# EAGLE library part A000005 (library A000005)
MICRO, ARDUINO NANO 3.0, MINI-B USB, ATmega328, 0.1"DIP, ICSP HDR
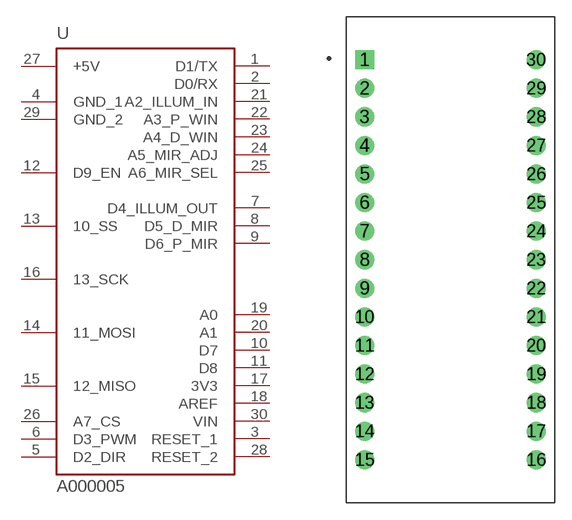
[diagram p0: symbol with the pads of ARDUINO_A000005; footprint ARDUINO_A000005]

Designator prefix U

## A000005 (AVAILABILITY: Unavailable; DESCRIPTION: MICRO, ARDUINO NANO 3.0, MINI-B USB, ATmega328, 0.1DIP, ICSP HDR; MF: Arduino; MP: A000005; PACKAGE: None; PRICE: None)  [ARDUINO_A000005]
1  D1/TX  out
2  D0/RX  in
3  RESET_1  pas
4  GND_1  pwr
5  D2_DIR  out
6  D3_PWM  out
7  D4_ILLUM_OUT  out
8  D5_D_MIR  out
9  D6_P_MIR  out
10  D7  out
11  D8  pas
12  D9_EN  out
13  10_SS  out
14  11_MOSI  out
15  12_MISO  in
16  13_SCK  out
17  3V3  pas
18  AREF  pas
19  A0  pas
20  A1  pas
21  A2_ILLUM_IN  pas
22  A3_P_WIN  in
23  A4_D_WIN  in
24  A5_MIR_ADJ  in
25  A6_MIR_SEL  in
26  A7_CS  in
27  +5V  pwr
28  RESET_2  pas
29  GND_2  pwr
30  VIN  pas

## Footprint ARDUINO_A000005 (pad centres in mm)
drill 1.1 pad 1.7 square: 1 -7.62,17.78
drill 1.1 pad 1.7: 2 -7.62,15.24; 3 -7.62,12.7; 4 -7.62,10.16; 5 -7.62,7.62; 6 -7.62,5.08; 7 -7.62,2.54; 8 -7.62,0; 9 -7.62,-2.54; 10 -7.62,-5.08; 11 -7.62,-7.62; 12 -7.62,-10.16; 13 -7.62,-12.7; 14 -7.62,-15.24; 15 -7.62,-17.78; 16 7.62,-17.78; 17 7.62,-15.24; 18 7.62,-12.7; 19 7.62,-10.16; 20 7.62,-7.62; 21 7.62,-5.08; 22 7.62,-2.54; 23 7.62,0; 24 7.62,2.54; 25 7.62,5.08; 26 7.62,7.62; 27 7.62,10.16; 28 7.62,12.7; 29 7.62,15.24; 30 7.62,17.78